# Altium schematic symbol library PJ-037A.SchLib: 1 symbol
Pins are listed as number, name and electrical type; pins without a type are passive.

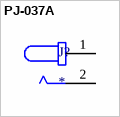
[diagram p0: symbol PJ-037A]

## PJ-037A
designator J?
2.0 mm Center Pin, 2.5 A, Right Angle, Through Hole, Dc Power Jack Connector; MP: PJ-037A; Package: None; Value: *; Availability: Unavailable; Price: None
footprint CUI_PJ-037A
pins: 1, 2